# Altium schematic symbol library fpga_xilinx_ultrascale.SchLib: 7 symbols (part 5 of 6)
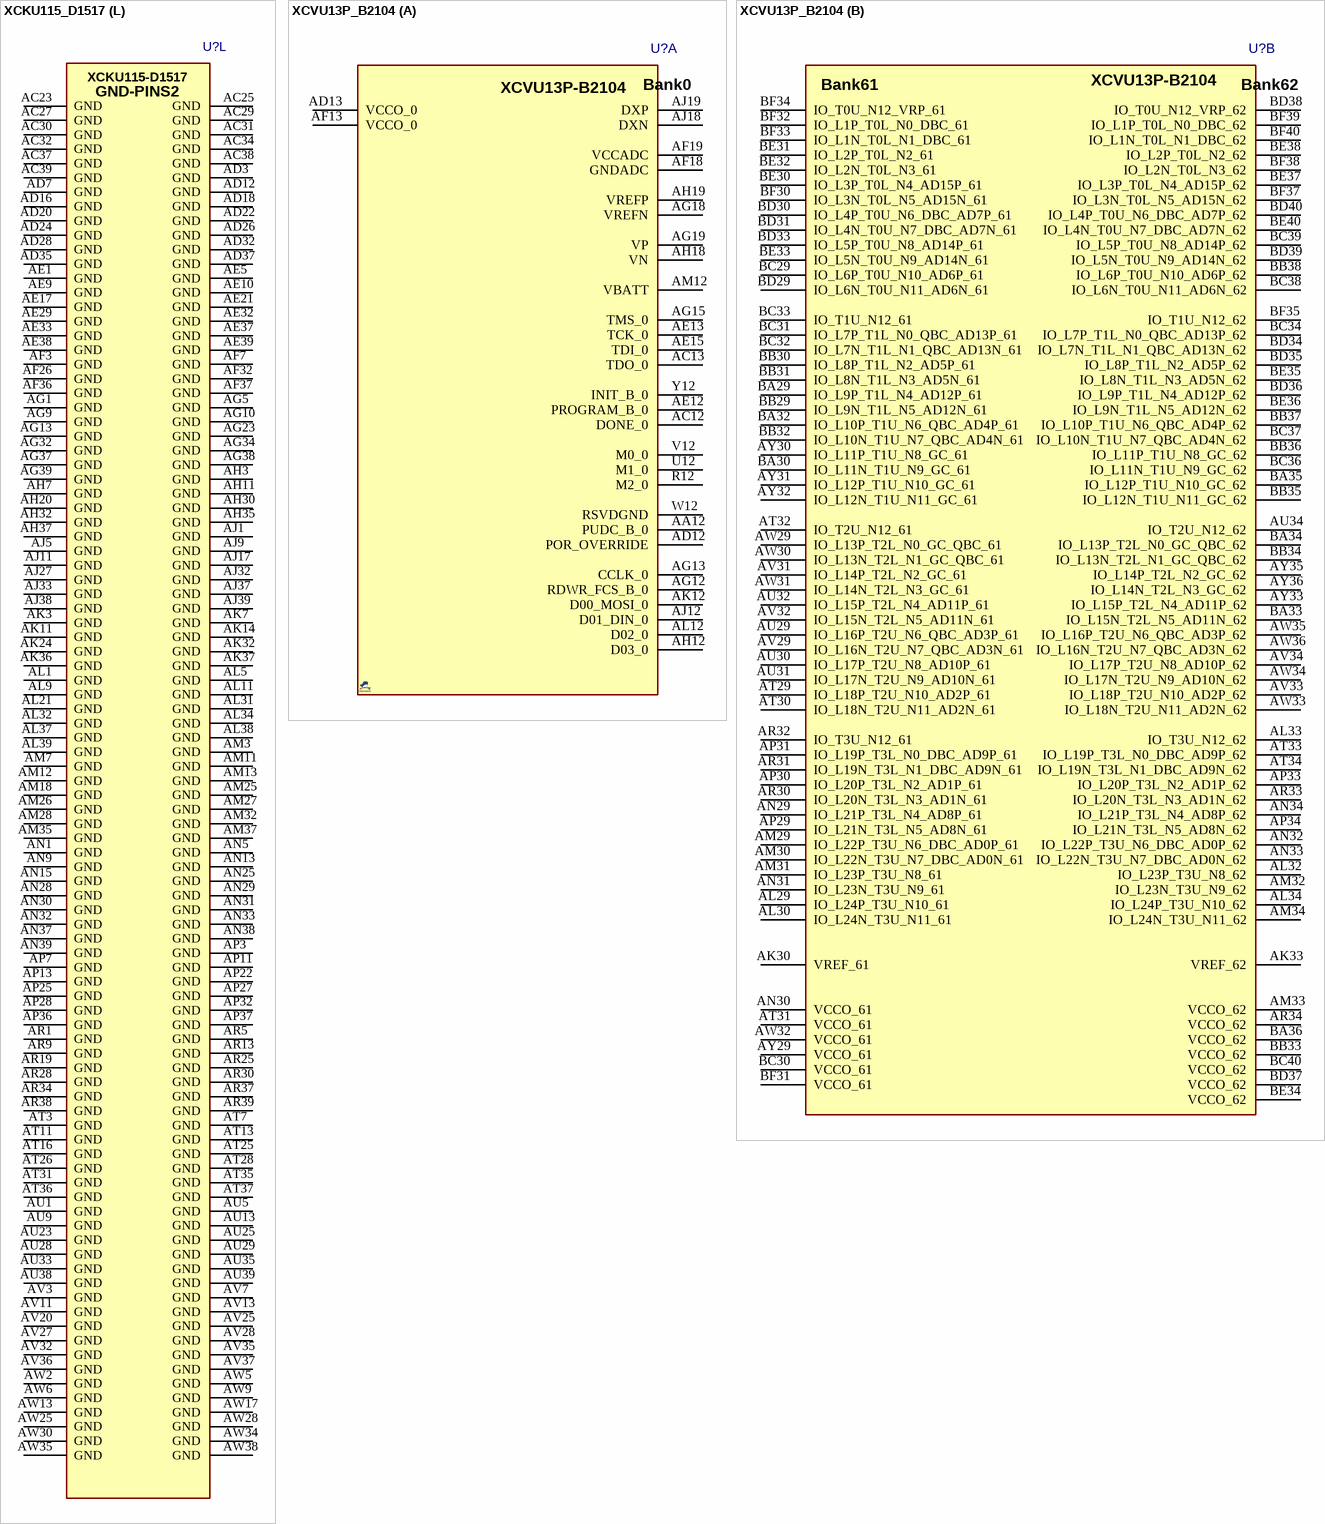
[diagram p33: symbols XCKU115_D1517 to XCVU13P_B2104]

## XCKU115_D1517
designator U?  (value not drawn)
Xilinx FPGA Ultrascale, Kintex KU115, D1517; MANF_P#: XCKU115-2FLVD1517I; ASSEMBLY: ASSEMBLY; MANF: XILINX; VALUE: XCKU115_D1517; PACKAGE: FLVD1517
footprint BGA100_1517
part A pins: AA9 PROGRAM_B_0, AA10 VCCO_0, AA15 VN, AA16 VREFP, AB9 RDWR_FCS_B_0, AB10 TDI_0, AB12 TCK_0, AB15 DXN, AB16 DXP, AC11 D02_0, AD11 D03_0, AE11 D01_DIN_0, AF11 D00_MOSI_0, AG11 VBATT, M11 PUDC_B_0, N11 CFGBVS_0, P11 INIT_B_0, R11 M2_0, T11 M1_0, U11 M0_0, V9 POR_OVERRIDE, V10 TMS_0, V12 CCLK_0, W9 DONE_0, W10 VCCO_0, W15 GNDADC, W16 VCCADC, Y10 TDO_0, Y15 VREFN, Y16 VP
part B pins: A20 IO_L24N_T3U_N11_72, A22 IO_L22N_T3U_N7_DBC_AD0N_72, A23 IO_L20P_T3L_N2_AD1P_72, A24 IO_L20N_T3L_N3_AD1N_72, B20 IO_L24P_T3U_N10_72, B21 IO_L22P_T3U_N6_DBC_AD0P_72, B22 IO_L23N_T3U_N9_72, B23 VCCO_72, B24 IO_L21N_T3L_N5_AD8N_72, C20 VCCO_72, C21 IO_L23P_T3U_N8_72, C22 IO_L19P_T3L_N0_DBC_AD9P_72, C23 IO_L19N_T3L_N1_DBC_AD9N_72, C24 IO_L21P_T3L_N4_AD8P_72, D20 IO_T3U_N12_72, D21 IO_L17N_T2U_N9_AD10N_72, D23 IO_L15N_T2L_N5_AD11N_72, D24 IO_T2U_N12_72, E18 IO_L9N_T1L_N5_AD12N_72, E20 IO_L11N_T1U_N9_GC_72, E21 IO_L17P_T2U_N8_AD10P_72, E22 IO_L15P_T2L_N4_AD11P_72, E23 IO_L13N_T2L_N1_GC_QBC_72, E24 VCCO_72, F18 IO_L9P_T1L_N4_AD12P_72, F19 IO_L7N_T1L_N1_QBC_AD13N_72, F20 IO_L11P_T1U_N8_GC_72, F21 VCCO_72, F22 IO_L14N_T2L_N3_GC_72, F23 IO_L13P_T2L_N0_GC_QBC_72, F24 IO_L18N_T2U_N11_AD2N_72, G18 VCCO_72, G19 IO_L7P_T1L_N0_QBC_AD13P_72, G20 IO_L12P_T1U_N10_GC_72, G21 IO_L12N_T1U_N11_GC_72, G22 IO_L14P_T2L_N2_GC_72, G24 IO_L18P_T2U_N10_AD2P_72, H18 IO_L10P_T1U_N6_QBC_AD4P_72, H19 IO_L10N_T1U_N7_QBC_AD4N_72, H21 IO_L8P_T1L_N2_AD5P_72, H22 IO_L8N_T1L_N3_AD5N_72, H23 IO_L16P_T2U_N6_QBC_AD3P_72, H24 IO_L16N_T2U_N7_QBC_AD3N_72, H29 IO_L24P_T3U_N10_71, H30 IO_L24N_T3U_N11_71, H31 IO_T3U_N12_71, J18 IO_T1U_N12_72, J19 IO_L3P_T0L_N4_AD15P_72, J20 IO_L3N_T0L_N5_AD15N_72, J21 IO_L2N_T0L_N3_72, J22 VCCO_72, J23 IO_L18N_T2U_N11_AD2N_71, J24 IO_L16P_T2U_N6_QBC_AD3P_71, J25 IO_L16N_T2U_N7_QBC_AD3N_71, J26 IO_L21P_T3L_N4_AD8P_71, J27 IO_L21N_T3L_N5_AD8N_71, J28 IO_L22P_T3U_N6_DBC_AD0P_71, J29 IO_L22N_T3U_N7_DBC_AD0N_71, J30 IO_L23P_T3U_N8_71, J31 IO_L23N_T3U_N9_71, K18 IO_L5N_T0U_N9_AD14N_72, K19 VCCO_72, K20 IO_L2P_T0L_N2_72, K21 IO_L4P_T0U_N6_DBC_AD7P_72, K22 IO_L4N_T0U_N7_DBC_AD7N_72, K23 IO_L18P_T2U_N10_AD2P_71, K25 IO_L15P_T2L_N4_AD11P_71, K26 IO_L15N_T2L_N5_AD11N_71, K27 IO_L14P_T2L_N2_GC_71, K28 IO_L14N_T2L_N3_GC_71, K29 VCCO_71, K30 IO_L20P_T3L_N2_AD1P_71, K31 IO_L20N_T3L_N3_AD1N_71, L18 IO_L5P_T0U_N8_AD14P_72, L19 IO_L6N_T0U_N11_AD6N_72, L20 IO_L1N_T0L_N1_DBC_72, L22 IO_L17P_T2U_N8_AD10P_71, L23 IO_L17N_T2U_N9_AD10N_71, L24 IO_T2U_N12_71, L25 IO_T1U_N12_71, L26 VCCO_71, L27 IO_L13P_T2L_N0_GC_QBC_71, L28 IO_L13N_T2L_N1_GC_QBC_71, L29 IO_L19P_T3L_N0_DBC_AD9P_71, L30 IO_L19N_T3L_N1_DBC_AD9N_71, M18 VREF_72, M19 IO_L6P_T0U_N10_AD6P_72, M20 IO_L1P_T0L_N0_DBC_72, M21 IO_T0U_N12_VRP_72, M22 VREF_71, M23 VCCO_71, M24 IO_L10P_T1U_N6_QBC_AD4P_71, M25 IO_L10N_T1U_N7_QBC_AD4N_71, M26 IO_L12P_T1U_N10_GC_71, M27 IO_L12N_T1U_N11_GC_71, M29 IO_L5P_T0U_N8_AD14P_71, M30 IO_L5N_T0U_N9_AD14N_71, M31 IO_L6N_T0U_N11_AD6N_71, N24 IO_L8N_T1L_N3_AD5N_71, N26 IO_L11P_T1U_N8_GC_71, N27 IO_L11N_T1U_N9_GC_71, N28 IO_L3P_T0L_N4_AD15P_71, N29 IO_L3N_T0L_N5_AD15N_71, N30 VCCO_71, N31 IO_L6P_T0U_N10_AD6P_71, P24 IO_L8P_T1L_N2_AD5P_71, P25 IO_L9P_T1L_N4_AD12P_71, P26 IO_L9N_T1L_N5_AD12N_71, P27 VCCO_71, P28 IO_L1P_T0L_N0_DBC_71, P29 IO_L1N_T0L_N1_DBC_71, P30 IO_L4P_T0U_N6_DBC_AD7P_71, P31 IO_L4N_T0U_N7_DBC_AD7N_71, R24 VCCO_71, R25 IO_L7P_T1L_N0_QBC_AD13P_71, R26 IO_L7N_T1L_N1_QBC_AD13N_71, R27 IO_L2P_T0L_N2_71, R28 IO_L2N_T0L_N3_71, R31 IO_T0U_N12_VRP_71
part C pins: A14 IO_L18N_T2U_N11_AD2N_73, A15 IO_L15N_T2L_N5_AD11N_73, A16 VCCO_73, A17 IO_L24N_T3U_N11_73, A18 IO_L21N_T3L_N5_AD8N_73, A19 IO_L21P_T3L_N4_AD8P_73, AE23 IO_T2U_N12_66, AE24 VCCO_66, AE25 IO_L23P_T3U_N8_66, AE26 IO_L24P_T3U_N10_66, AE27 IO_L24N_T3U_N11_66, AE28 IO_T3U_N12_66, AF20 IO_L18P_T2U_N10_AD2P_66, AF21 VCCO_66, AF22 IO_L17P_T2U_N8_AD10P_66, AF23 IO_L16P_T2U_N6_QBC_AD3P_66, AF24 IO_L16N_T2U_N7_QBC_AD3N_66, AF25 IO_L23N_T3U_N9_66, AF27 IO_L22P_T3U_N6_DBC_AD0P_66, AF28 IO_L22N_T3U_N7_DBC_AD0N_66, AG20 VREF_66, AG21 IO_L18N_T2U_N11_AD2N_66, AG22 IO_L17N_T2U_N9_AD10N_66, AG24 IO_L15P_T2L_N4_AD11P_66, AG25 IO_L15N_T2L_N5_AD11N_66, AG26 IO_L21P_T3L_N4_AD8P_66, AG27 IO_L21N_T3L_N5_AD8N_66, AG28 VCCO_66, AH21 IO_L12P_T1U_N10_GC_66, AH22 IO_L14P_T2L_N2_GC_66, AH23 IO_L14N_T2L_N3_GC_66, AH24 IO_L13P_T2L_N0_GC_QBC_66, AH25 VCCO_66, AH26 IO_L20P_T3L_N2_AD1P_66, AH27 IO_L20N_T3L_N3_AD1N_66, AJ20 IO_T1U_N12_66, AJ21 IO_L12N_T1U_N11_GC_66, AJ22 VCCO_66, AJ23 IO_L11P_T1U_N8_GC_66, AJ24 IO_L13N_T2L_N1_GC_QBC_66, AJ25 IO_L10P_T1U_N6_QBC_AD4P_66, AJ26 IO_L19P_T3L_N0_DBC_AD9P_66, AK21 IO_L9P_T1L_N4_AD12P_66, AK22 IO_L9N_T1L_N5_AD12N_66, AK23 IO_L11N_T1U_N9_GC_66, AK25 IO_L10N_T1U_N7_QBC_AD4N_66, AK26 IO_L19N_T3L_N1_DBC_AD9N_66, AL22 IO_L7P_T1L_N0_QBC_AD13P_66, AL23 IO_L7N_T1L_N1_QBC_AD13N_66, AL24 IO_L8P_T1L_N2_AD5P_66, AL25 IO_L8N_T1L_N3_AD5N_66, AM21 IO_L6P_T0U_N10_AD6P_66, AM22 IO_L6N_T0U_N11_AD6N_66, AM23 VCCO_66, AM24 IO_L4P_T0U_N6_DBC_AD7P_66, AN21 IO_L5P_T0U_N8_AD14P_66, AN22 IO_L2P_T0L_N2_66, AN23 IO_L2N_T0L_N3_66, AN24 IO_L4N_T0U_N7_DBC_AD7N_66, AP21 IO_L5N_T0U_N9_AD14N_66, AP23 IO_L3P_T0L_N4_AD15P_66, AP24 IO_L3N_T0L_N5_AD15N_66, AR21 IO_T0U_N12_VRP_66, AR22 IO_L1P_T0L_N0_DBC_66, AR23 IO_L1N_T0L_N1_DBC_66, AR24 VCCO_66, B14 IO_L18P_T2U_N10_AD2P_73, B15 IO_L15P_T2L_N4_AD11P_73, B16 IO_L22N_T3U_N7_DBC_AD0N_73, B17 IO_L24P_T3U_N10_73, B19 IO_L23N_T3U_N9_73, C14 IO_L16N_T2U_N7_QBC_AD3N_73, C16 IO_L20N_T3L_N3_AD1N_73, C17 IO_L22P_T3U_N6_DBC_AD0P_73, C18 IO_L19N_T3L_N1_DBC_AD9N_73, C19 IO_L23P_T3U_N8_73, D14 IO_T2U_N12_73, D15 IO_L16P_T2U_N6_QBC_AD3P_73, D16 IO_L20P_T3L_N2_AD1P_73, D17 VCCO_73, D18 IO_L19P_T3L_N0_DBC_AD9P_73, D19 IO_T3U_N12_73, E14 VCCO_73, E15 IO_L13N_T2L_N1_GC_QBC_73, E16 IO_L13P_T2L_N0_GC_QBC_73, E17 IO_L17N_T2U_N9_AD10N_73, F14 IO_L14N_T2L_N3_GC_73, F15 IO_L14P_T2L_N2_GC_73, F17 IO_L17P_T2U_N8_AD10P_73, G14 IO_L12N_T1U_N11_GC_73, G15 IO_L11N_T1U_N9_GC_73, G16 IO_L11P_T1U_N8_GC_73, G17 IO_L9N_T1L_N5_AD12N_73, H14 IO_L12P_T1U_N10_GC_73, H15 VCCO_73, H16 IO_L7N_T1L_N1_QBC_AD13N_73, H17 IO_L9P_T1L_N4_AD12P_73, J12 VCCO_73, J13 IO_T1U_N12_73, J14 IO_L10N_T1U_N7_QBC_AD4N_73, J15 IO_L10P_T1U_N6_QBC_AD4P_73, J16 IO_L7P_T1L_N0_QBC_AD13P_73, K12 IO_L8N_T1L_N3_AD5N_73, K13 IO_L8P_T1L_N2_AD5P_73, K15 IO_L5N_T0U_N9_AD14N_73, K16 IO_L5P_T0U_N8_AD14P_73, K17 IO_L6N_T0U_N11_AD6N_73, L12 IO_L1N_T0L_N1_DBC_73, L13 IO_L3N_T0L_N5_AD15N_73, L14 IO_L4N_T0U_N7_DBC_AD7N_73, L15 IO_L4P_T0U_N6_DBC_AD7P_73, L16 VCCO_73, L17 IO_L6P_T0U_N10_AD6P_73, M12 IO_L1P_T0L_N0_DBC_73, M13 VCCO_73, M14 IO_L3P_T0L_N4_AD15P_73, M15 IO_L2N_T0L_N3_73, M16 IO_L2P_T0L_N2_73, M17 VREF_73, N12 IO_T0U_N12_VRP_73
part D pins: AD30 VREF_67, AD31 IO_T1U_N12_67, AE30 IO_L10P_T1U_N6_QBC_AD4P_67, AE31 IO_L10N_T1U_N7_QBC_AD4N_67, AF29 IO_L9P_T1L_N4_AD12P_67, AF30 IO_L9N_T1L_N5_AD12N_67, AF31 VCCO_67, AG29 IO_L8P_T1L_N2_AD5P_67, AG30 IO_L8N_T1L_N3_AD5N_67, AG31 IO_L7P_T1L_N0_QBC_AD13P_67, AH28 IO_L6P_T0U_N10_AD6P_67, AH29 IO_L12P_T1U_N10_GC_67, AH31 IO_L7N_T1L_N1_QBC_AD13N_67, AJ28 IO_L6N_T0U_N11_AD6N_67, AJ29 IO_L12N_T1U_N11_GC_67, AJ30 IO_L11P_T1U_N8_GC_67, AJ31 IO_L11N_T1U_N9_GC_67, AK27 IO_L1P_T0L_N0_DBC_67, AK28 IO_L3P_T0L_N4_AD15P_67, AK29 VCCO_67, AK30 IO_L4P_T0U_N6_DBC_AD7P_67, AK31 IO_L4N_T0U_N7_DBC_AD7N_67, AL26 VCCO_67, AL27 IO_L1N_T0L_N1_DBC_67, AL28 IO_L3N_T0L_N5_AD15N_67, AL29 IO_L5P_T0U_N8_AD14P_67, AL30 IO_L5N_T0U_N9_AD14N_67, AM29 IO_L2P_T0L_N2_67, AM30 IO_L2N_T0L_N3_67, AM31 IO_T0U_N12_VRP_67
part E pins: AD13 IO_L23N_T3U_N9_84, AD14 IO_L23P_T3U_N8_84, AD15 VREF_84, AE12 IO_L21N_T3L_N5_AD8N_84, AE13 IO_L21P_T3L_N4_AD8P_84, AE14 VCCO_84, AE15 IO_T3U_N12_84, AE19 IO_T3U_N12_PERSTN0_65, AF12 IO_L19N_T3L_N1_DBC_AD9N_84, AF13 IO_L19P_T3L_N0_DBC_AD9P_84, AF14 IO_L22P_T3U_N6_DBC_AD0P_84, AF15 IO_L24P_T3U_N10_84, AF16 IO_L23P_T3U_N8_I2C_SCLK_65, AF17 IO_L20N_T3L_N3_AD1N_D09_65, AF18 IO_L20P_T3L_N2_AD1P_D08_65, AF19 IO_L22P_T3U_N6_DBC_AD0P_D04_65, AG12 IO_L20P_T3L_N2_AD1P_84, AG14 IO_L22N_T3U_N7_DBC_AD0N_84, AG15 IO_L24N_T3U_N11_84, AG16 IO_L23N_T3U_N9_I2C_SDA_65, AG17 IO_L21P_T3L_N4_AD8P_D06_65, AG18 VCCO_65, AG19 IO_L22N_T3U_N7_DBC_AD0N_D05_65, AH12 IO_L20N_T3L_N3_AD1N_84, AH13 IO_L18N_T2U_N11_AD2N_84, AH14 IO_L18P_T2U_N10_AD2P_84, AH15 VCCO_84, AH16 IO_L21N_T3L_N5_AD8N_D07_65, AH17 IO_L19N_T3L_N1_DBC_AD9N_D11_65, AH18 IO_L19P_T3L_N0_DBC_AD9P_D10_65, AH19 IO_L24P_T3U_N10_EMCCLK_65, AJ12 VCCO_84, AJ13 IO_L16P_T2U_N6_QBC_AD3P_84, AJ14 IO_L17N_T2U_N9_AD10N_84, AJ15 IO_L17P_T2U_N8_AD10P_84, AJ16 VREF_65, AJ18 IO_L16P_T2U_N6_QBC_AD3P_A00_D16_65, AJ19 IO_L24N_T3U_N11_DOUT_CSO_B_65, AK12 IO_L16N_T2U_N7_QBC_AD3N_84, AK13 IO_L14P_T2L_N2_GC_84, AK15 IO_L15N_T2L_N5_AD11N_84, AK16 IO_L15P_T2L_N4_AD11P_84, AK17 IO_T2U_N12_CSI_ADV_B_65, AK18 IO_L16N_T2U_N7_QBC_AD3N_A01_D17_65, AK19 VCCO_65, AK20 IO_L18P_T2U_N10_AD2P_D12_65, AL12 IO_T2U_N12_84, AL13 IO_L14N_T2L_N3_GC_84, AL14 IO_L13N_T2L_N1_GC_QBC_84, AL15 IO_L13P_T2L_N0_GC_QBC_84, AL16 VCCO_65, AL17 IO_L17P_T2U_N8_AD10P_D14_65, AL18 IO_L15N_T2L_N5_AD11N_A03_D19_65, AL19 IO_L15P_T2L_N4_AD11P_A02_D18_65, AL20 IO_L18N_T2U_N11_AD2N_D13_65, AM14 IO_L12P_T1U_N10_GC_94, AM15 VREF_94, AM16 IO_L11P_T1U_N8_GC_94, AM17 IO_L17N_T2U_N9_AD10N_D15_65, AM19 IO_L14N_T2L_N3_GC_A05_D21_65, AM20 IO_L14P_T2L_N2_GC_A04_D20_65, AN14 IO_L12N_T1U_N11_GC_94, AN16 IO_L11N_T1U_N9_GC_94, AN17 IO_L9P_T1L_N4_AD12P_94, AN18 IO_L13N_T2L_N1_GC_QBC_A07_D23_65, AN19 IO_L13P_T2L_N0_GC_QBC_A06_D22_65, AN20 VCCO_65, AP14 IO_T1U_N12_94, AP15 IO_L8P_T1L_N2_AD5P_94, AP16 IO_L9N_T1L_N5_AD12N_94, AP17 VCCO_94, AP18 IO_L12N_T1U_N11_GC_A09_D25_65, AP19 IO_L12P_T1U_N10_GC_A08_D24_65, AP20 IO_L11P_T1U_N8_GC_A10_D26_65, AR14 VCCO_94, AR15 IO_L8N_T1L_N3_AD5N_94, AR16 IO_L7N_T1L_N1_QBC_AD13N_94, AR17 IO_L7P_T1L_N0_QBC_AD13P_94, AR18 IO_T1U_N12_PERSTN1_65, AR20 IO_L11N_T1U_N9_GC_A11_D27_65, AT14 IO_L10N_T1U_N7_QBC_AD4N_94, AT15 IO_L10P_T1U_N6_QBC_AD4P_94, AT17 IO_T0U_N12_94, AT18 IO_L10N_T1U_N7_QBC_AD4N_A13_D29_65, AT19 IO_L10P_T1U_N6_QBC_AD4P_A12_D28_65, AT20 IO_L9P_T1L_N4_AD12P_A14_D30_65, AT21 VCCO_65, AT22 IO_L6N_T0U_N11_AD6N_A21_65, AT23 IO_L6P_T0U_N10_AD6P_A20_65, AT24 IO_L5P_T0U_N8_AD14P_A22_65, AU14 IO_L6N_T0U_N11_AD6N_94, AU15 IO_L6P_T0U_N10_AD6P_94, AU16 IO_L5P_T0U_N8_AD14P_94, AU17 IO_L3P_T0L_N4_AD15P_94, AU18 VCCO_94, AU19 IO_L7P_T1L_N0_QBC_AD13P_A18_65, AU20 IO_L9N_T1L_N5_AD12N_A15_D31_65, AU21 IO_L2P_T0L_N2_FOE_B_65, AU22 IO_L4P_T0U_N6_DBC_AD7P_A24_65, AU24 IO_L5N_T0U_N9_AD14N_A23_65, AV14 IO_L4P_T0U_N6_DBC_AD7P_94, AV15 VCCO_94, AV16 IO_L5N_T0U_N9_AD14N_94, AV17 IO_L3N_T0L_N5_AD15N_94, AV18 IO_L1P_T0L_N0_DBC_94, AV19 IO_L7N_T1L_N1_QBC_AD13N_A19_65, AV21 IO_L2N_T0L_N3_FWE_FCS2_B_65, AV22 IO_L4N_T0U_N7_DBC_AD7N_A25_65, AV23 IO_L1P_T0L_N0_DBC_RS0_65, AV24 IO_L3P_T0L_N4_AD15P_A26_65, AW14 IO_L4N_T0U_N7_DBC_AD7N_94, AW15 IO_L2N_T0L_N3_94, AW16 IO_L2P_T0L_N2_94, AW18 IO_L1N_T0L_N1_DBC_94, AW19 IO_L8N_T1L_N3_AD5N_A17_65, AW20 IO_L8P_T1L_N2_AD5P_A16_65, AW21 IO_T0U_N12_A28_65, AW22 VCCO_65, AW23 IO_L1N_T0L_N1_DBC_RS1_65, AW24 IO_L3N_T0L_N5_AD15N_A27_65
part F pins: A26 MGTHRXP3_133, A27 MGTHRXN3_133, A31 MGTHTXP3_132, A32 MGTHTXN3_132, A36 MGTHRXP3_132, A37 MGTHRXN3_132, AA31 MGTREFCLK1P_128, AA32 MGTREFCLK1N_128, AA35 MGTHTXP3_128, AA36 MGTHTXN3_128, AB31 MGTAVTTRCAL_LS, AB32 MGTRREF_LS, AB33 MGTREFCLK0P_128, AB34 MGTREFCLK0N_128, AB38 MGTHRXP2_128, AB39 MGTHRXN2_128, AC35 MGTHTXP2_128, AC36 MGTHTXN2_128, AD33 MGTREFCLK1P_127, AD34 MGTREFCLK1N_127, AD38 MGTHRXP1_128, AD39 MGTHRXN1_128, AE35 MGTHTXP1_128, AE36 MGTHTXN1_128, AF33 MGTREFCLK0P_127, AF34 MGTREFCLK0N_127, AF38 MGTHRXP0_128, AF39 MGTHRXN0_128, AG35 MGTHTXP0_128, AG36 MGTHTXN0_128, AH33 MGTREFCLK1P_126, AH34 MGTREFCLK1N_126, AH38 MGTHRXP3_127, AH39 MGTHRXN3_127, AJ35 MGTHTXP3_127, AJ36 MGTHTXN3_127, AK33 MGTREFCLK0P_126, AK34 MGTREFCLK0N_126, AK38 MGTHRXP2_127, AK39 MGTHRXN2_127, AL35 MGTHTXP2_127, AL36 MGTHTXN2_127, AM33 NC, AM34 NC, AM38 MGTHRXP1_127, AM39 MGTHRXN1_127, AN26 NC, AN27 NC, AN35 MGTHTXP1_127, AN36 MGTHTXN1_127, AP29 NC, AP30 NC, AP33 NC, AP34 NC, AP38 MGTHRXP0_127, AP39 MGTHRXN0_127, AR26 NC, AR27 NC, AR31 NC, AR32 NC, AR35 MGTHTXP0_127, AR36 MGTHTXN0_127, AT29 NC, AT30 NC, AT33 MGTHTXP3_126, AT34 MGTHTXN3_126, AT38 MGTHRXP3_126, AT39 MGTHRXN3_126, AU26 NC, AU27 NC, AU31 MGTHTXP2_126, AU32 MGTHTXN2_126, AU36 MGTHRXP2_126, AU37 MGTHRXN2_126, AV29 NC, AV30 NC, AV33 MGTHTXP1_126, AV34 MGTHTXN1_126, AV38 MGTHRXP1_126, AV39 MGTHRXN1_126, AW26 NC, AW27 NC, AW31 MGTHTXP0_126, AW32 MGTHTXN0_126, AW36 MGTHRXP0_126, AW37 MGTHRXN0_126, B29 MGTHTXP3_133, B30 MGTHTXN3_133, B33 MGTHTXP2_132, B34 MGTHTXN2_132, B38 MGTHRXP2_132, B39 MGTHRXN2_132, C26 MGTHRXP2_133, C27 MGTHRXN2_133, C31 MGTHTXP1_132, C32 MGTHTXN1_132, C36 MGTHRXP1_132, C37 MGTHRXN1_132, D29 MGTHTXP2_133, D30 MGTHTXN2_133, D33 MGTHTXP0_132, D34 MGTHTXN0_132, D38 MGTHRXP0_132, D39 MGTHRXN0_132, E26 MGTHRXP1_133, E27 MGTHRXN1_133, E31 MGTHTXP1_133, E32 MGTHTXN1_133, E35 MGTHTXP3_131, E36 MGTHTXN3_131, F29 MGTHTXP0_133, F30 MGTHTXN0_133, F33 MGTREFCLK1P_133, F34 MGTREFCLK1N_133, F38 MGTHRXP3_131, F39 MGTHRXN3_131, G26 MGTHRXP0_133, G27 MGTHRXN0_133, G35 MGTHTXP2_131, G36 MGTHTXN2_131, H33 MGTREFCLK0P_133, H34 MGTREFCLK0N_133, H38 MGTHRXP2_131, H39 MGTHRXN2_131, J35 MGTHTXP1_131, J36 MGTHTXN1_131, K33 MGTREFCLK1P_132, K34 MGTREFCLK1N_132, K38 MGTHRXP1_131, K39 MGTHRXN1_131, L35 MGTHTXP0_131, L36 MGTHTXN0_131, M33 MGTREFCLK0P_132, M34 MGTREFCLK0N_132, M38 MGTHRXP0_131, M39 MGTHRXN0_131, N35 NC, N36 NC, P33 MGTREFCLK1P_131, P34 MGTREFCLK1N_131, P38 NC, P39 NC, R35 NC, R36 NC, T33 MGTREFCLK0P_131, T34 MGTREFCLK0N_131, T38 NC, T39 NC, U35 NC, U36 NC, V33 NC, V34 NC, V38 NC, V39 NC, W31 NC, W32 NC, W36 NC, W37 NC, Y31 MGTAVTTRCAL_LN, Y32 MGTRREF_LN, Y33 NC, Y34 NC, Y38 MGTHRXP3_128, Y39 MGTHRXN3_128
part G pins: AA3 MGTHTXN3_228, AA4 MGTHTXP3_228, AA7 MGTREFCLK1N_228, AA8 MGTREFCLK1P_228, AB1 MGTHRXN2_228, AB2 MGTHRXP2_228, AB5 MGTHTXN2_228, AB6 MGTHTXP2_228, AC3 MGTHRXN1_228, AC4 MGTHRXP1_228, AC7 MGTREFCLK0N_228, AC8 MGTREFCLK0P_228, AD1 MGTHRXN0_228, AD2 MGTHRXP0_228, AD5 MGTHTXN1_228, AD6 MGTHTXP1_228, AD9 MGTREFCLK1N_227, AD10 MGTREFCLK1P_227, AE3 MGTHTXN0_228, AE4 MGTHTXP0_228, AE7 MGTREFCLK0N_227, AE8 MGTREFCLK0P_227, AF1 MGTHRXN3_227, AF2 MGTHRXP3_227, AF5 MGTHTXN3_227, AF6 MGTHTXP3_227, AF9 MGTREFCLK1N_226, AF10 MGTREFCLK1P_226, AG3 MGTHRXN2_227, AG4 MGTHRXP2_227, AG7 MGTREFCLK0N_226, AG8 MGTREFCLK0P_226, AH1 MGTHRXN1_227, AH2 MGTHRXP1_227, AH5 MGTHTXN2_227, AH6 MGTHTXP2_227, AH9 MGTREFCLK1N_225, AH10 MGTREFCLK1P_225, AJ3 MGTHTXN1_227, AJ4 MGTHTXP1_227, AJ7 MGTREFCLK0N_225, AJ8 MGTREFCLK0P_225, AK1 MGTHRXN0_227, AK2 MGTHRXP0_227, AK5 MGTHTXN0_227, AK6 MGTHTXP0_227, AK9 MGTREFCLK1N_224, AK10 MGTREFCLK1P_224, AL3 MGTHTXN3_226, AL4 MGTHTXP3_226, AL7 MGTREFCLK0N_224, AL8 MGTREFCLK0P_224, AM1 MGTHRXN3_226, AM2 MGTHRXP3_226, AM5 MGTHTXN2_226, AM6 MGTHTXP2_226, AM9 MGTHTXN3_224, AM10 MGTHTXP3_224, AN3 MGTHRXN2_226, AN4 MGTHRXP2_226, AN7 MGTHRXN3_224, AN8 MGTHRXP3_224, AN11 MGTHTXN2_224, AN12 MGTHTXP2_224, AP1 MGTHRXN1_226, AP2 MGTHRXP1_226, AP5 MGTHTXN1_226, AP6 MGTHTXP1_226, AP9 MGTHRXN2_224, AP10 MGTHRXP2_224, AR3 MGTHRXN0_226, AR4 MGTHRXP0_226, AR7 MGTHTXN0_226, AR8 MGTHTXP0_226, AR11 MGTHTXN1_224, AR12 MGTHTXP1_224, AT1 MGTHRXN3_225, AT2 MGTHRXP3_225, AT5 MGTHTXN3_225, AT6 MGTHTXP3_225, AT9 MGTHRXN1_224, AT10 MGTHRXP1_224, AU3 MGTHRXN2_225, AU4 MGTHRXP2_225, AU7 MGTHTXN2_225, AU8 MGTHTXP2_225, AU11 MGTHTXN0_224, AU12 MGTHTXP0_224, AV1 MGTHRXN1_225, AV2 MGTHRXP1_225, AV5 MGTHTXN1_225, AV6 MGTHTXP1_225, AV9 MGTHRXN0_224, AV10 MGTHRXP0_224, AW3 MGTHRXN0_225, AW4 MGTHRXP0_225, AW7 MGTHTXN0_225, AW8 MGTHTXP0_225, AW11 MGTRREF_RS, AW12 MGTAVTTRCAL_RS, Y1 MGTHRXN3_228, Y2 MGTHRXP3_228
part H pins: A3 MGTHRXN3_232, A4 MGTHRXP3_232, A7 MGTHTXN3_232, A8 MGTHTXP3_232, A11 MGTRREF_RN, A12 MGTAVTTRCAL_RN, B1 MGTHRXN2_232, B2 MGTHRXP2_232, B5 MGTHTXN2_232, B6 MGTHTXP2_232, B9 MGTHRXN3_233, B10 MGTHRXP3_233, C3 MGTHRXN1_232, C4 MGTHRXP1_232, C7 MGTHTXN1_232, C8 MGTHTXP1_232, C11 MGTHTXN3_233, C12 MGTHTXP3_233, D1 MGTHRXN0_232, D2 MGTHRXP0_232, D5 MGTHTXN0_232, D6 MGTHTXP0_232, D9 MGTHRXN2_233, D10 MGTHRXP2_233, E3 MGTHRXN3_231, E4 MGTHRXP3_231, E7 MGTHTXN3_231, E8 MGTHTXP3_231, E11 MGTHTXN2_233, E12 MGTHTXP2_233, F1 MGTHRXN2_231, F2 MGTHRXP2_231, F5 MGTHTXN2_231, F6 MGTHTXP2_231, F9 MGTHRXN1_233, F10 MGTHRXP1_233, G3 MGTHRXN1_231, G4 MGTHRXP1_231, G7 MGTHRXN0_233, G8 MGTHRXP0_233, G11 MGTHTXN1_233, G12 MGTHTXP1_233, H1 MGTHRXN0_231, H2 MGTHRXP0_231, H5 MGTHTXN1_231, H6 MGTHTXP1_231, H9 MGTHTXN0_233, H10 MGTHTXP0_233, J3 MGTHTXN0_231, J4 MGTHTXP0_231, J7 MGTREFCLK1N_233, J8 MGTREFCLK1P_233, K1 MGTHRXN3_230, K2 MGTHRXP3_230, K5 MGTHTXN3_230, K6 MGTHTXP3_230, K9 MGTREFCLK0N_233, K10 MGTREFCLK0P_233, L3 MGTHRXN2_230, L4 MGTHRXP2_230, L7 MGTREFCLK1N_232, L8 MGTREFCLK1P_232, M1 MGTHRXN1_230, M2 MGTHRXP1_230, M5 MGTHTXN2_230, M6 MGTHTXP2_230, M9 MGTREFCLK0N_232, M10 MGTREFCLK0P_232, N3 MGTHTXN1_230, N4 MGTHTXP1_230, N7 MGTREFCLK1N_231, N8 MGTREFCLK1P_231, P1 MGTHRXN0_230, P2 MGTHRXP0_230, P5 MGTHTXN0_230, P6 MGTHTXP0_230, P9 MGTREFCLK0N_231, P10 MGTREFCLK0P_231, R3 MGTHRXN3_229, R4 MGTHRXP3_229, R7 MGTREFCLK1N_230, R8 MGTREFCLK1P_230, T1 MGTHRXN2_229, T2 MGTHRXP2_229, T5 MGTHTXN3_229, T6 MGTHTXP3_229, T9 MGTREFCLK0N_230, T10 MGTREFCLK0P_230, U3 MGTHTXN2_229, U4 MGTHTXP2_229, U7 MGTREFCLK1N_229, U8 MGTREFCLK1P_229, V1 MGTHRXN1_229, V2 MGTHRXP1_229, V5 MGTHTXN1_229, V6 MGTHTXP1_229, W3 MGTHRXN0_229, W4 MGTHRXP0_229, W7 MGTREFCLK0N_229, W8 MGTREFCLK0P_229, Y5 MGTHTXN0_229, Y6 MGTHTXP0_229
part I pins: AA12 VCCBRAM, AA14 VCCINT, AA18 VCCINT, AA20 VCCINT, AA22 VCCINT, AA24 VCCINTIO, AA26 VCCAUXIO, AA28 VCCAUX, AB11 VCCBRAM, AB13 VCCINT, AB17 VCCINT, AB19 VCCINT, AB21 VCCINT, AB23 VCCINT, AB25 VCCINTIO, AB27 VCCAUXIO, AB29 VCCAUX, AC12 VCCBRAM, AC14 VCCINT, AC16 VCCINT, AC18 VCCINT, AC20 VCCINT, AC22 VCCINT, AC24 VCCINTIO, AC26 VCCAUXIO, AC28 VCCAUXIO, AD17 VCCINT, AD19 VCCINT, AD21 VCCINT, AD23 VCCINT, AD25 VCCINTIO, AD27 VCCAUXIO, AD29 VCCAUX, AE16 VCCINT, AE18 VCCINT, AE20 VCCINT, AE22 VCCINT, N14 VCCINT, N16 VCCINT, N18 VCCINT, N20 VCCINT, N22 VCCINT, P13 VCCINT, P15 VCCINT, P17 VCCINT, P19 VCCINT, P21 VCCINT, P23 VCCINT, R12 VCCBRAM, R14 VCCINT, R16 VCCINT, R18 VCCINT, R20 VCCINT, R22 VCCINT, R30 VCCAUX, T13 VCCINT, T15 VCCINT, T17 VCCINT, T19 VCCINT, T21 VCCINT, T23 VCCINT, T25 VCCAUXIO, T27 VCCAUXIO, T29 VCCAUX, T31 VCCAUX, U12 VCCBRAM, U14 VCCINT, U16 VCCINT, U18 VCCINT, U20 VCCINT, U22 VCCINT, U24 VCCINT, U26 VCCAUXIO, U28 VCCAUX, U30 VCCAUX, V11 VCCBRAM, V13 VCCINT, V15 VCCINT, V17 VCCINT, V19 VCCINT, V21 VCCINT, V23 VCCINT, V25 VCCINTIO, V27 VCCAUXIO, V29 VCCAUX, W12 VCCBRAM, W14 VCCINT, W18 VCCINT, W20 VCCINT, W22 VCCINT, W24 VCCINTIO, W26 VCCAUXIO, W28 VCCAUX, Y11 VCCBRAM, Y13 VCCINT, Y17 VCCINT, Y19 VCCINT, Y21 VCCINT, Y23 VCCINT, Y25 VCCINTIO, Y27 VCCAUXIO, Y29 VCCAUX
part J pins: A10 MGTAVCC_RN, A29 MGTAVTT_LN, A33 MGTAVTT_LN, AA2 MGTAVTT_RS, AA6 MGTAVCC_RS, AA33 MGTVCCAUX_LS, AB4 MGTAVTT_RS, AB8 MGTVCCAUX_RS, AB35 MGTAVTT_LS, AC2 MGTAVTT_RS, AC6 MGTAVCC_RS, AC33 MGTVCCAUX_LS, AD4 MGTAVTT_RS, AD8 MGTAVCC_RS, AD36 MGTAVTT_LS, AE2 MGTAVTT_RS, AE6 MGTAVCC_RS, AE34 MGTAVCC_LS, AF4 MGTAVTT_RS, AF8 MGTAVCC_RS, AF35 MGTAVTT_LS, AG2 MGTAVTT_RS, AG6 MGTAVCC_RS, AG33 MGTAVCC_LS, AH4 MGTAVTT_RS, AH8 MGTAVCC_RS, AH36 MGTAVTT_LS, AJ2 MGTAVTT_RS, AJ6 MGTAVCC_RS, AJ10 MGTAVCC_RS, AJ34 MGTAVCC_LS, AK4 MGTAVTT_RS, AK8 MGTAVCC_RS, AK35 MGTAVTT_LS, AL2 MGTAVTT_RS, AL6 MGTAVTT_RS, AL10 MGTAVCC_RS, AL33 MGTAVCC_LS, AM4 MGTAVTT_RS, AM8 MGTAVCC_RS, AM36 MGTAVTT_LS, AN2 MGTAVTT_RS, AN6 MGTAVTT_RS, AN10 MGTAVCC_RS, AN34 MGTAVCC_LS, AP4 MGTAVTT_RS, AP8 MGTAVCC_RS, AP12 MGTAVCC_RS, AP26 MGTAVCC_LS, AP31 MGTAVTT_LS, AP35 MGTAVTT_LS, AR2 MGTAVTT_RS, AR6 MGTAVTT_RS, AR10 MGTAVCC_RS, AR29 MGTAVTT_LS, AR33 MGTAVTT_LS, AT4 MGTAVTT_RS, AT8 MGTAVCC_RS, AT12 MGTAVCC_RS, AT27 MGTAVCC_LS, AT32 MGTAVTT_LS, AU2 MGTAVTT_RS, AU6 MGTAVTT_RS, AU10 MGTAVCC_RS, AU30 MGTAVTT_LS, AU34 MGTAVTT_LS, AV4 MGTAVTT_RS, AV8 MGTAVCC_RS, AV12 MGTAVCC_RS, AV26 MGTAVCC_LS, AV31 MGTAVTT_LS, AW10 MGTAVCC_RS, AW29 MGTAVTT_LS, AW33 MGTAVTT_LS, B4 MGTAVTT_RN, B8 MGTAVCC_RN, B12 MGTAVCC_RN, B26 MGTAVCC_LN, B31 MGTAVTT_LN, C2 MGTAVTT_RN, C6 MGTAVTT_RN, C10 MGTAVCC_RN, C30 MGTAVTT_LN, C34 MGTAVTT_LN, D4 MGTAVTT_RN, D8 MGTAVCC_RN, D12 MGTAVCC_RN, D27 MGTAVCC_LN, D32 MGTAVTT_LN, E2 MGTAVTT_RN, E6 MGTAVTT_RN, E10 MGTAVCC_RN, E29 MGTAVTT_LN, E33 MGTAVTT_LN, F4 MGTAVTT_RN, F8 MGTAVCC_RN, F12 MGTAVCC_RN, F26 MGTAVCC_LN, F31 MGTAVTT_LN, F35 MGTAVTT_LN, G2 MGTAVTT_RN, G6 MGTAVTT_RN, G10 MGTAVCC_RN, G34 MGTAVCC_LN, H4 MGTAVTT_RN, H8 MGTAVCC_RN, H36 MGTAVTT_LN, J2 MGTAVTT_RN, J6 MGTAVTT_RN, J10 MGTAVCC_RN, J33 MGTAVCC_LN, K4 MGTAVTT_RN, K8 MGTAVCC_RN, K35 MGTAVTT_LN, L2 MGTAVTT_RN, L6 MGTAVCC_RN, L10 MGTAVCC_RN, L34 MGTAVCC_LN, M4 MGTAVTT_RN, M8 MGTAVCC_RN, M36 MGTAVTT_LN, N2 MGTAVTT_RN, N6 MGTAVCC_RN, N10 MGTAVCC_RN, N33 MGTAVCC_LN, P4 MGTAVTT_RN, P8 MGTAVCC_RN, P35 MGTAVTT_LN, R2 MGTAVTT_RN, R6 MGTAVCC_RN, R34 MGTAVCC_LN, T4 MGTAVTT_RN, T8 MGTVCCAUX_RN, T36 MGTAVTT_LN, U2 MGTAVTT_RN, U6 MGTAVCC_RN, U33 MGTVCCAUX_LN, V4 MGTAVTT_RN, V8 MGTVCCAUX_RN, W2 MGTAVTT_RN, W6 MGTAVCC_RN, W33 MGTVCCAUX_LN, Y4 MGTAVTT_RS, Y8 MGTVCCAUX_RS
part K pins: A2 GND, A5 GND, A6 GND, A9 GND, A13 GND, A21 GND, A25 GND, A28 GND, A30 GND, A34 GND, A35 GND, A38 GND, AA1 GND, AA5 GND, AA11 GND, AA13 GND, AA17 GND, AA19 GND, AA21 GND, AA23 GND, AA25 GND, AA27 GND, AA29 GND, AA30 GND, AA34 GND, AA37 GND, AA38 GND, AA39 GND, AB3 GND, AB7 GND, AB14 GND, AB18 GND, AB20 GND, AB22 GND, AB24 GND, AB26 GND, AB28 GND, AB30 GND, AB36 GND, AB37 GND, AC1 GND, AC5 GND, AC9 GND, AC10 GND, AC13 GND, AC15 GND, AC17 GND, AC19 GND, AC21 GND, B3 GND, B7 GND, B11 GND, B13 GND, B18 GND, B25 GND, B27 GND, B28 GND, B32 GND, B35 GND, B36 GND, B37 GND, C1 GND, C5 GND, C9 GND, C13 GND, C15 GND, C25 GND, C28 GND, C29 GND, C33 GND, C35 GND, C38 GND, C39 GND, D3 GND, D7 GND, D11 GND, D13 GND, D22 GND, D25 GND, D26 GND, D28 GND, D31 GND, D35 GND, D36 GND, D37 GND, E1 GND, E5 GND, E9 GND, E13 GND, E19 GND, E25 GND, E28 GND, E30 GND, E34 GND, E37 GND, E38 GND, E39 GND, F3 GND, F7 GND, F11 GND, F13 GND, F16 GND, F25 GND, F27 GND, F28 GND, F32 GND, F36 GND, F37 GND, G1 GND, G5 GND, G9 GND, G13 GND, G23 GND, G25 GND, G28 GND, G29 GND, G30 GND, G31 GND, G32 GND, G33 GND, G37 GND, G38 GND, G39 GND, H3 GND, H7 GND, H11 GND, H12 GND, H13 GND, H20 GND, H25 GND, H26 GND, H27 GND, H28 GND, H32 GND, H35 GND, H37 GND, J1 GND, J5 GND, J9 GND, J11 GND, J17 GND, J32 GND, J34 GND, J37 GND, J38 GND, J39 GND, K3 GND, K7 GND, K11 GND, K14 GND, K24 GND, K32 GND, K36 GND, K37 GND, L1 GND, L5 GND, L9 GND, L11 GND, L21 GND, L31 GND, L32 GND, L33 GND, L37 GND, L38 GND, L39 GND, M3 GND, M7 GND, M28 GND, M32 GND, M35 GND, M37 GND, N1 GND, N5 GND, N9 GND, N13 GND, N15 GND, N17 GND, N19 GND, N21 GND, N23 GND, N25 GND, N32 GND, N34 GND, N37 GND, N38 GND, N39 GND, P3 GND, P7 GND, P12 GND, P14 GND, P16 GND, P18 GND, P20 GND, P22 GND, P32 GND, P36 GND, P37 GND, R1 GND, R5 GND, R9 GND, R10 GND, R13 GND, R15 GND, R17 GND, R19 GND, R21 GND, R23 GND, R29 GND, R32 GND, R33 GND, R37 GND, R38 GND, R39 GND, T3 GND, T7 GND, T12 GND, T14 GND, T16 GND, T18 GND, T20 GND, T22 GND, T24 GND, T26 GND, T28 GND, T30 GND, T32 GND, T35 GND, T37 GND, U1 GND, U5 GND, U9 GND, U10 GND, U13 GND, U15 GND, U17 GND, U19 GND, U21 GND, U23 GND, U25 GND, U27 GND, U29 GND, U31 GND, U32 GND, U34 GND, U37 GND, U38 GND, U39 GND, V3 GND, V7 GND, V14 GND, V16 GND, V18 GND, V20 GND, V22 GND, V24 GND, V26 GND, V28 GND, V30 GND, V31 GND, V32 GND, V35 GND, V36 GND, V37 GND, W1 GND, W5 GND, W11 GND, W13 GND, W17 GND, W19 GND, W21 GND, W23 GND, W25 GND, W27 GND, W29 GND, W30 GND, W34 GND, W35 GND, W38 GND, W39 GND, Y3 GND, Y7 GND, Y9 GND, Y12 GND, Y14 GND, Y18 GND, Y20 GND, Y22 GND, Y24 GND, Y26 GND, Y28 GND, Y30 GND, Y35 GND, Y36 GND, Y37 GND
part L pins: AC23 GND, AC25 GND, AC27 GND, AC29 GND, AC30 GND, AC31 GND, AC32 GND, AC34 GND, AC37 GND, AC38 GND, AC39 GND, AD3 GND, AD7 GND, AD12 GND, AD16 GND, AD18 GND, AD20 GND, AD22 GND, AD24 GND, AD26 GND, AD28 GND, AD32 GND, AD35 GND, AD37 GND, AE1 GND, AE5 GND, AE9 GND, AE10 GND, AE17 GND, AE21 GND, AE29 GND, AE32 GND, AE33 GND, AE37 GND, AE38 GND, AE39 GND, AF3 GND, AF7 GND, AF26 GND, AF32 GND, AF36 GND, AF37 GND, AG1 GND, AG5 GND, AG9 GND, AG10 GND, AG13 GND, AG23 GND, AG32 GND, AG34 GND, AG37 GND, AG38 GND, AG39 GND, AH3 GND, AH7 GND, AH11 GND, AH20 GND, AH30 GND, AH32 GND, AH35 GND, AH37 GND, AJ1 GND, AJ5 GND, AJ9 GND, AJ11 GND, AJ17 GND, AJ27 GND, AJ32 GND, AJ33 GND, AJ37 GND, AJ38 GND, AJ39 GND, AK3 GND, AK7 GND, AK11 GND, AK14 GND, AK24 GND, AK32 GND, AK36 GND, AK37 GND, AL1 GND, AL5 GND, AL9 GND, AL11 GND, AL21 GND, AL31 GND, AL32 GND, AL34 GND, AL37 GND, AL38 GND, AL39 GND, AM3 GND, AM7 GND, AM11 GND, AM12 GND, AM13 GND, AM18 GND, AM25 GND, AM26 GND, AM27 GND, AM28 GND, AM32 GND, AM35 GND, AM37 GND, AN1 GND, AN5 GND, AN9 GND, AN13 GND, AN15 GND, AN25 GND, AN28 GND, AN29 GND, AN30 GND, AN31 GND, AN32 GND, AN33 GND, AN37 GND, AN38 GND, AN39 GND, AP3 GND, AP7 GND, AP11 GND, AP13 GND, AP22 GND, AP25 GND, AP27 GND, AP28 GND, AP32 GND, AP36 GND, AP37 GND, AR1 GND, AR5 GND, AR9 GND, AR13 GND, AR19 GND, AR25 GND, AR28 GND, AR30 GND, AR34 GND, AR37 GND, AR38 GND, AR39 GND, AT3 GND, AT7 GND, AT11 GND, AT13 GND, AT16 GND, AT25 GND, AT26 GND, AT28 GND, AT31 GND, AT35 GND, AT36 GND, AT37 GND, AU1 GND, AU5 GND, AU9 GND, AU13 GND, AU23 GND, AU25 GND, AU28 GND, AU29 GND, AU33 GND, AU35 GND, AU38 GND, AU39 GND, AV3 GND, AV7 GND, AV11 GND, AV13 GND, AV20 GND, AV25 GND, AV27 GND, AV28 GND, AV32 GND, AV35 GND, AV36 GND, AV37 GND, AW2 GND, AW5 GND, AW6 GND, AW9 GND, AW13 GND, AW17 GND, AW25 GND, AW28 GND, AW30 GND, AW34 GND, AW35 GND, AW38 GND
part A text: XCKU115-D1517; Bank0
part B text: XCKU115-D1517; Bank71; Bank72
part C text: XCKU115-D1517; Bank73; Bank66
part D text: XCKU115-D1517; Bank67
part E text: XCKU115-D1517; Bank94,84 (HR); Bank65 (HR)
part F text: XCKU115-D1517; MGT_LS; MGT_LN
part G text: XCKU115-D1517; MGT_RS
part H text: XCKU115-D1517; MGT_RN; 232 DOESN'T EXIST IN : VU080, VU095; 233 DOESN'T EXIST IN : VU080, VU095
part I text: XCKU115-D1517; POWER
part J text: XCKU115-D1517; POWER MGT
part K text: XCKU115-D1517; GND-PINS1
part L text: XCKU115-D1517; GND-PINS2

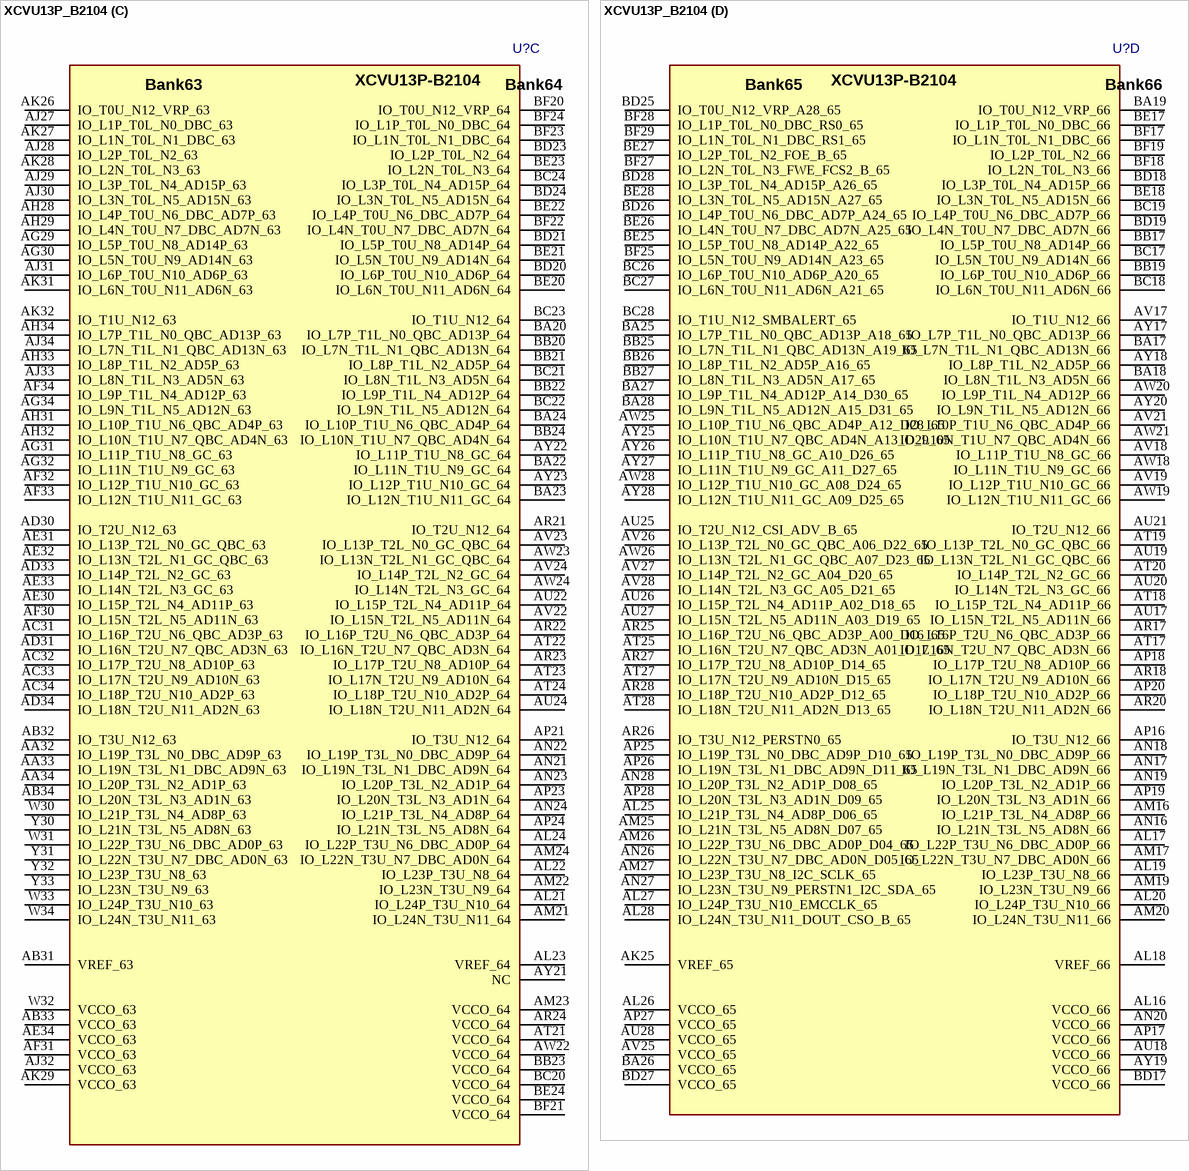
[diagram p25: symbol XCVU13P_B2104]

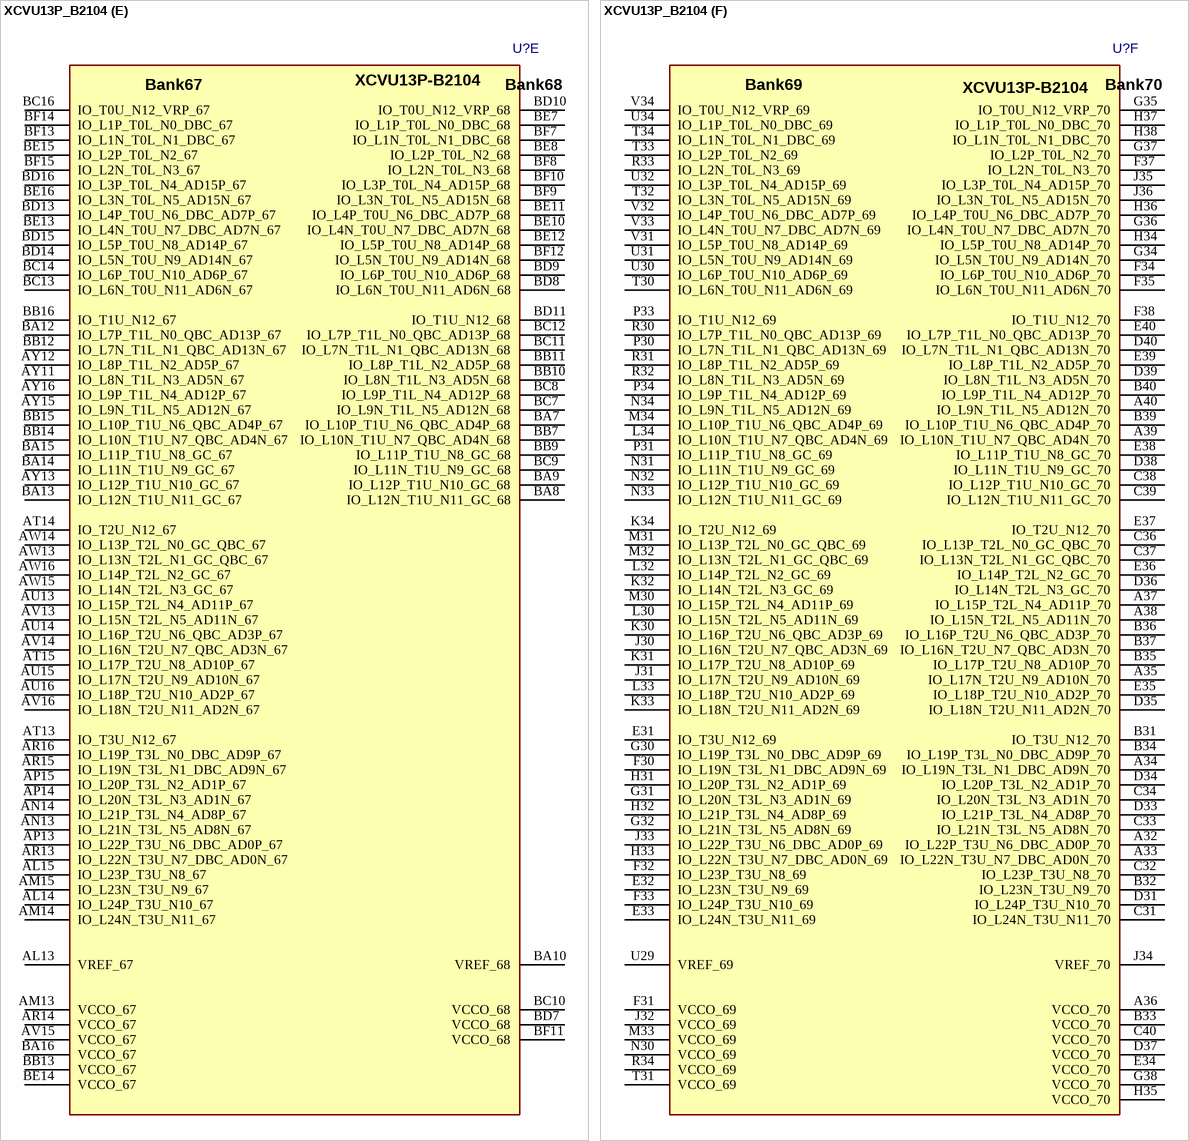
[diagram p26: symbol XCVU13P_B2104]

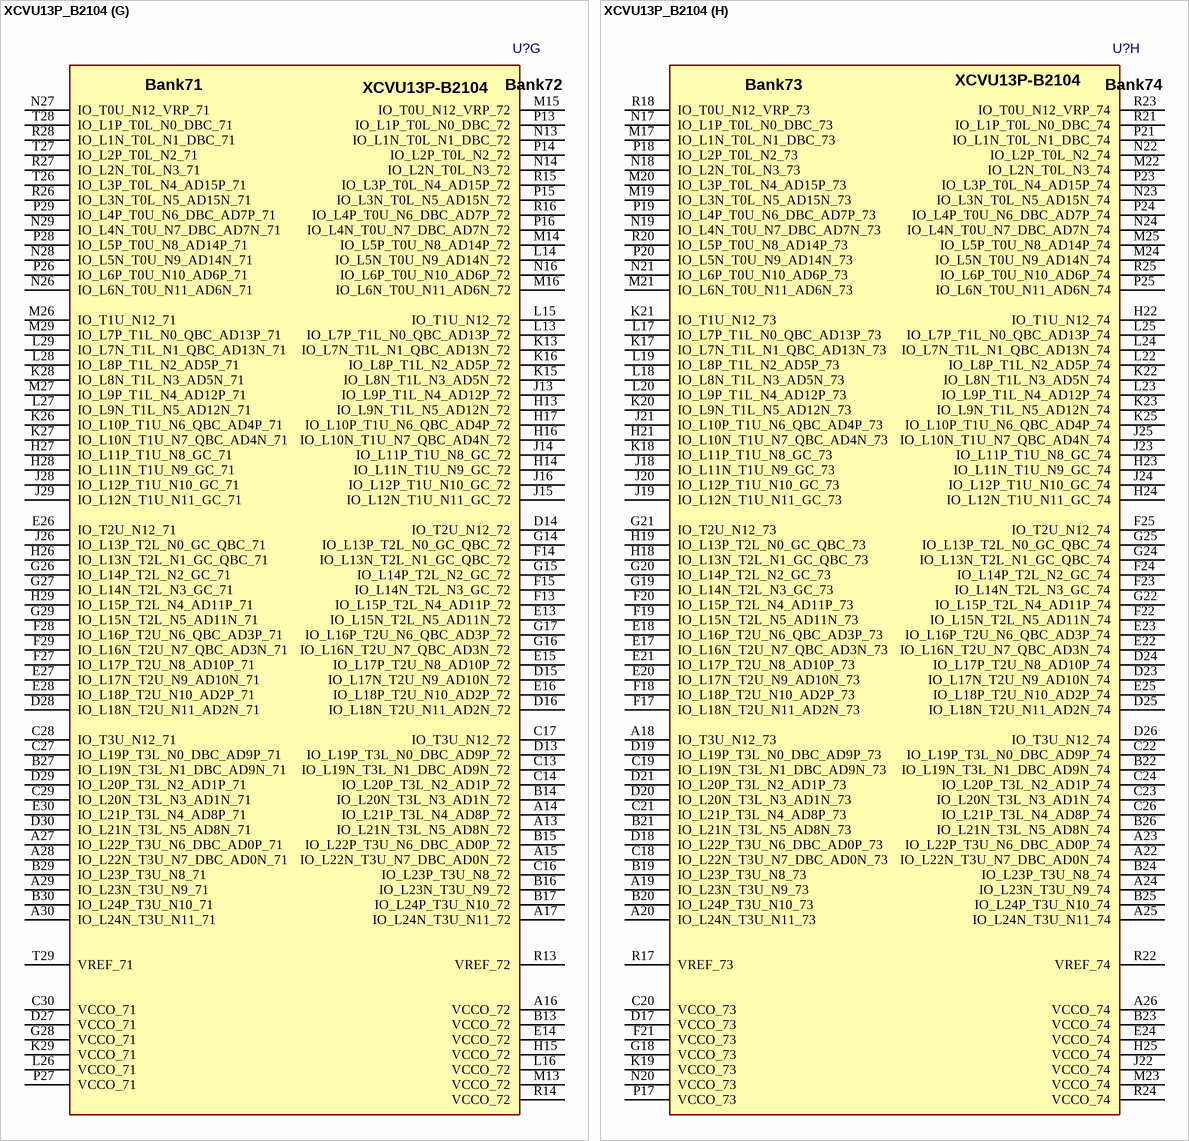
[diagram p27: symbol XCVU13P_B2104]

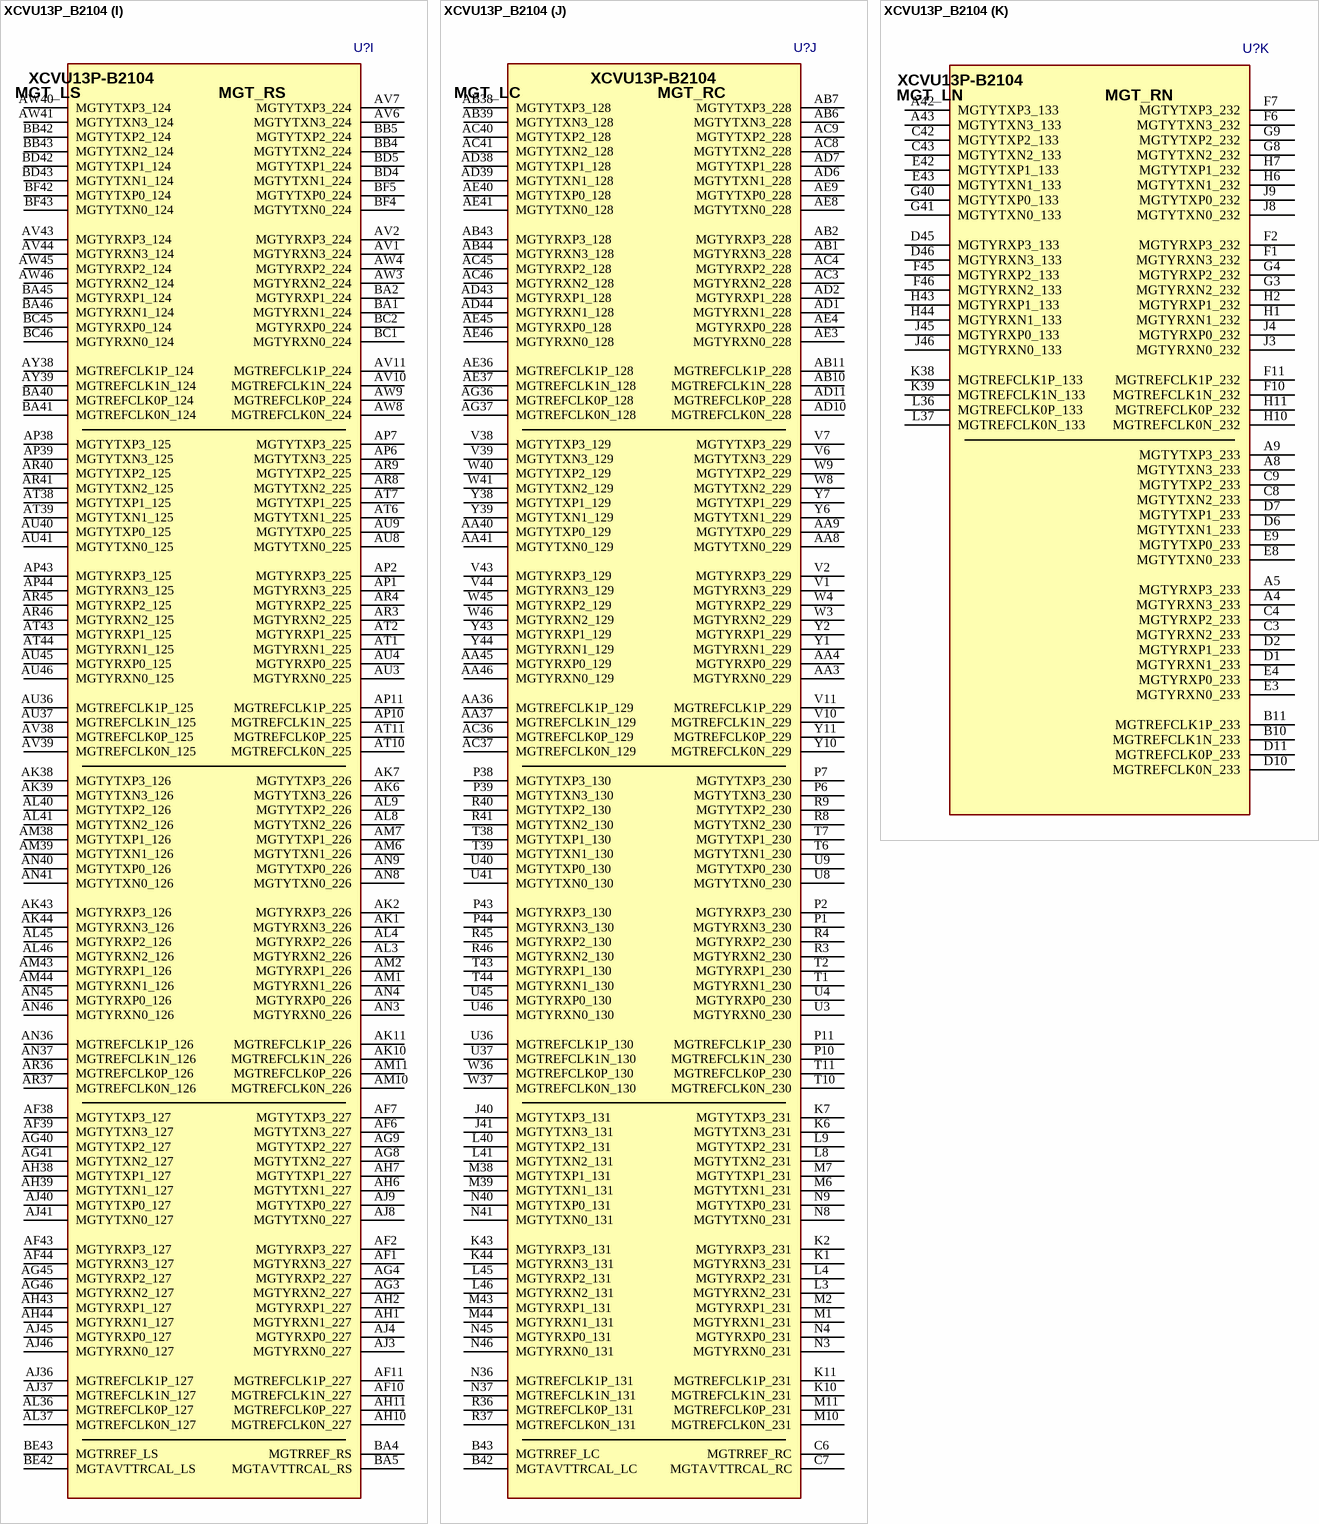
[diagram p28: symbol XCVU13P_B2104]

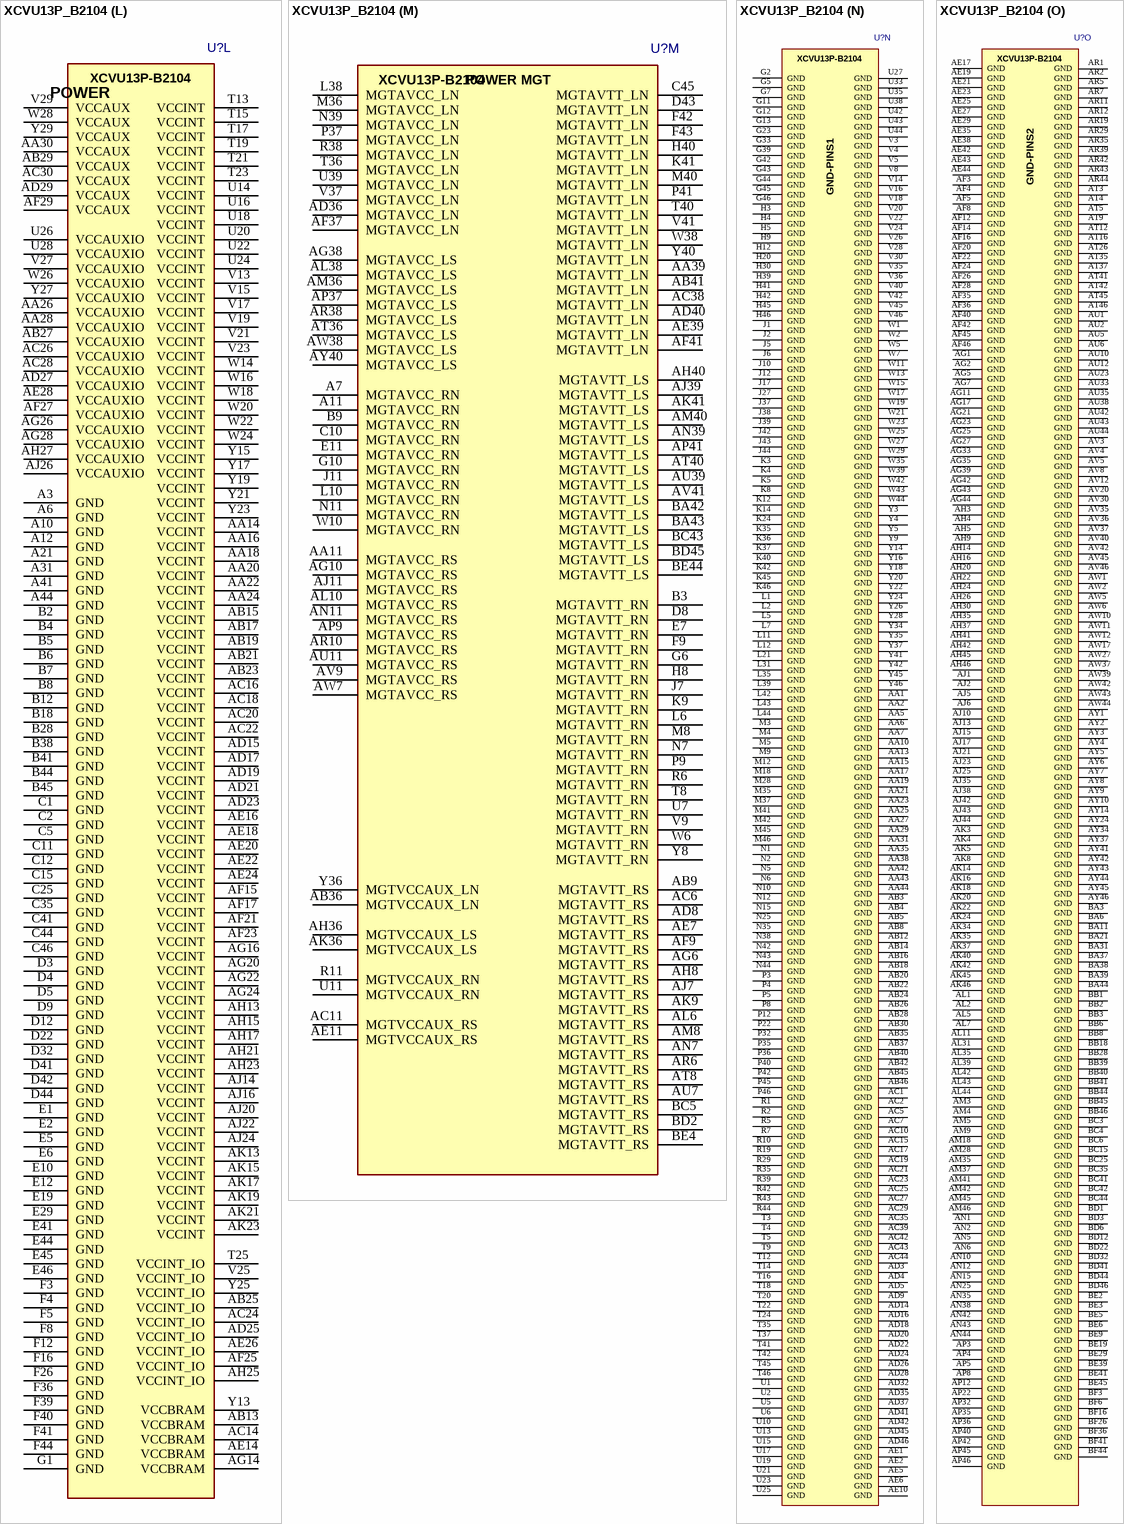
[diagram p29: symbol XCVU13P_B2104]